# Altium footprint library rf-micro-devices.PCBLIB: 1 footprints
Each footprint in its own frame and in the unit in brackets; x right, y up, seen from the top. Pads: shape width x height; smd on the part's side, far side on the other; paste and mask are expansions set on the pad; w line width, h text height; cw(c..) or ccw(c..) is an arc to the next point about the centre after c.
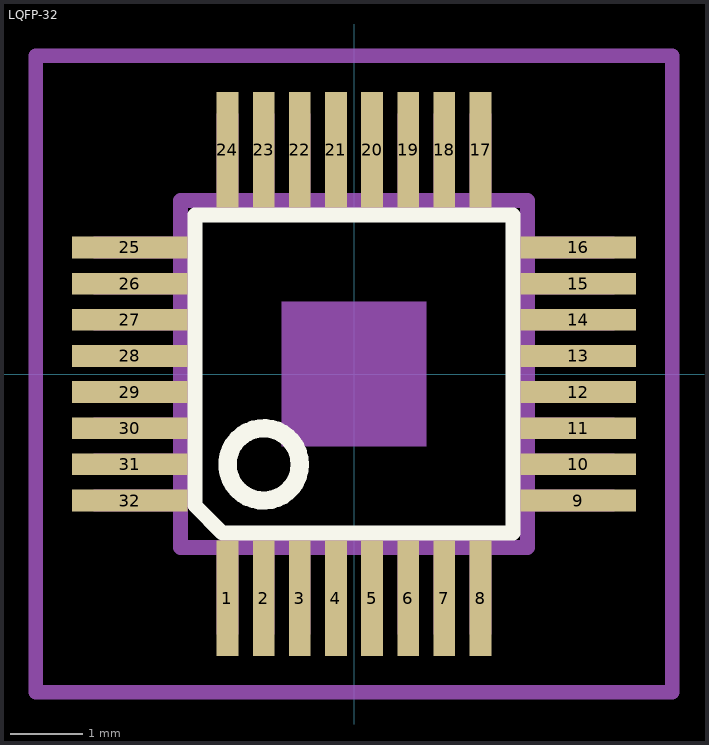
[diagram p0: the footprint, top view; thin cyan lines are the x and y axes]

## LQFP-32 [mm]
pads (32):
  rect 0.3x1.6 smd: 1(-1.75,-3.1) 2(-1.25,-3.1) 3(-0.75,-3.1) 4(-0.25,-3.1) 5(0.25,-3.1) 6(0.75,-3.1) 7(1.25,-3.1) 8(1.75,-3.1) 17(1.75,3.1) 18(1.25,3.1) 19(0.75,3.1) 20(0.25,3.1) 21(-0.25,3.1) 22(-0.75,3.1) 23(-1.25,3.1) 24(-1.75,3.1)
  rect 1.6x0.3 smd: 9(3.1,-1.75) 10(3.1,-1.25) 11(3.1,-0.75) 12(3.1,-0.25) 13(3.1,0.25) 14(3.1,0.75) 15(3.1,1.25) 16(3.1,1.75) 25(-3.1,1.75) 26(-3.1,1.25) 27(-3.1,0.75) 28(-3.1,0.25) 29(-3.1,-0.25) 30(-3.1,-0.75) 31(-3.1,-1.25) 32(-3.1,-1.75)
Top Overlay:
  circle w0.254: c-1.25,-1.25 r0.5
  lines w0.203: -2.2,-1.813 -2.2,2.2 2.2,2.2 2.2,-2.2 -1.819,-2.2 -2.2,-1.813
Mechanical 6:
  rectangle: -1,-1 1,1
Mechanical 16:
  rectangle: -1.9,-3.6 -1.6,-2.45
  rectangle: -1.4,-3.6 -1.1,-2.45
  rectangle: -0.9,-3.6 -0.6,-2.45
  rectangle: -0.4,-3.6 -0.1,-2.45
  rectangle: 0.1,-3.6 0.4,-2.45
  rectangle: 0.6,-3.6 0.9,-2.45
  rectangle: 1.1,-3.6 1.4,-2.45
  rectangle: 1.6,-3.6 1.9,-2.45
  rectangle: 2.45,-1.9 3.6,-1.6
  rectangle: 2.45,-1.4 3.6,-1.1
  rectangle: 2.45,-0.9 3.6,-0.6
  rectangle: 2.45,-0.4 3.6,-0.1
  rectangle: 2.45,0.1 3.6,0.4
  rectangle: 2.45,0.6 3.6,0.9
  rectangle: 2.45,1.1 3.6,1.4
  rectangle: 2.45,1.6 3.6,1.9
  rectangle: 1.6,2.45 1.9,3.6
  rectangle: 1.1,2.45 1.4,3.6
  rectangle: 0.6,2.45 0.9,3.6
  rectangle: 0.1,2.45 0.4,3.6
  rectangle: -0.4,2.45 -0.1,3.6
  rectangle: -0.9,2.45 -0.6,3.6
  rectangle: -1.4,2.45 -1.1,3.6
  rectangle: -1.9,2.45 -1.6,3.6
  rectangle: -3.6,1.6 -2.45,1.9
  rectangle: -3.6,1.1 -2.45,1.4
  rectangle: -3.6,0.6 -2.45,0.9
  rectangle: -3.6,0.1 -2.45,0.4
  rectangle: -3.6,-0.4 -2.45,-0.1
  rectangle: -3.6,-0.9 -2.45,-0.6
  rectangle: -3.6,-1.4 -2.45,-1.1
  rectangle: -3.6,-1.9 -2.45,-1.6
  lines w0.203: -2.4,-2.4 2.4,-2.4 2.4,2.4 -2.4,2.4 -2.4,-2.4
Mechanical 27:
  lines w0.2: -4.4,-4.4 -4.4,4.4 4.4,4.4 4.4,-4.4 -4.4,-4.4